# EAGLE library part BLACKPILL (library stm32duino boards)
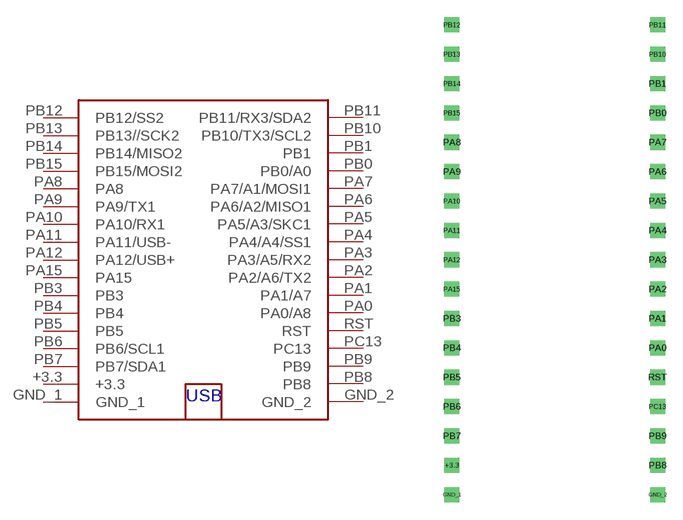
[diagram p2: symbol with the pads of BLACKPILL; footprint BLACKPILL]

Designator prefix -

## BLACKPILL  [BLACKPILL]
+3.3  +3.3
GND_1  GND_1
GND_2  GND_2
PA0  PA0/A8
PA1  PA1/A7
PA2  PA2/A6/TX2
PA3  PA3/A5/RX2
PA4  PA4/A4/SS1
PA5  PA5/A3/SKC1
PA6  PA6/A2/MISO1
PA7  PA7/A1/MOSI1
PA8  PA8
PA9  PA9/TX1
PA10  PA10/RX1
PA11  PA11/USB-
PA12  PA12/USB+
PA15  PA15
PB0  PB0/A0
PB1  PB1
PB3  PB3
PB4  PB4
PB5  PB5
PB6  PB6/SCL1
PB7  PB7/SDA1
PB8  PB8
PB9  PB9
PB10  PB10/TX3/SCL2
PB11  PB11/RX3/SDA2
PB12  PB12/SS2
PB13  PB13//SCK2
PB14  PB14/MISO2
PB15  PB15/MOSI2
PC13  PC13
RST  RST

## Footprint BLACKPILL (pad centres in mm)
drill 0.8 square: +3.3 -8.89,-17.526; GND_1 -8.89,-20.066; GND_2 8.89,-20.066; PA0 8.89,-7.366; PA1 8.89,-4.826; PA2 8.89,-2.286; PA3 8.89,0.254; PA4 8.89,2.794; PA5 8.89,5.334; PA6 8.89,7.874; PA7 8.89,10.414; PA8 -8.89,10.414; PA9 -8.89,7.874; PA10 -8.89,5.334; PA11 -8.89,2.794; PA12 -8.89,0.254; PA15 -8.89,-2.286; PB0 8.89,12.954; PB1 8.89,15.494; PB3 -8.89,-4.826; PB4 -8.89,-7.366; PB5 -8.89,-9.906; PB6 -8.89,-12.446; PB7 -8.89,-14.986; PB8 8.89,-17.526; PB9 8.89,-14.986; PB10 8.89,18.034; PB11 8.89,20.574; PB12 -8.89,20.574; PB13 -8.89,18.034; PB14 -8.89,15.494; PB15 -8.89,12.954; PC13 8.89,-12.446; RST 8.89,-9.906